# EAGLE library part NJM4580 (library PartsForEval)
オーディオ用 2 回路入りオペアンプ ●動作電源電圧 ±2~±18V ●低雑音 0.8μVrms typ. (RIAA) ●広利得帯域 15MHz typ. ●低歪率 0.0005% typ. ●スルーレート 5V/μs typ.
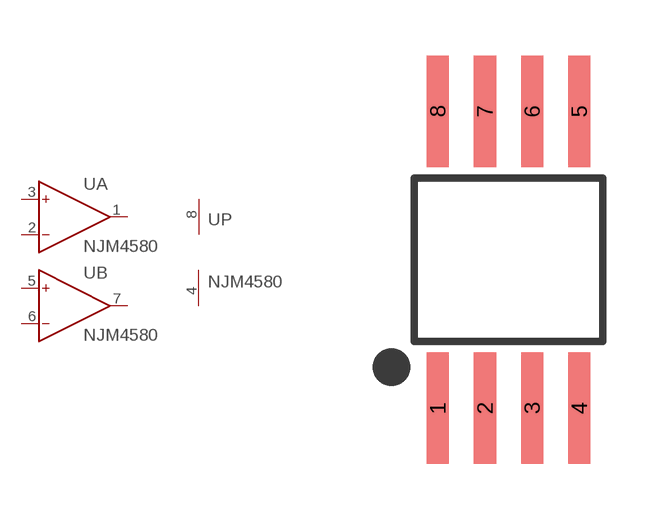
[diagram p1: symbol with the pads of DMP8; footprint DMP8]

Designator prefix U; gates A=OP B=OP P=PWR+-

## NJM4580M  [DMP8]
1  A:OUT  out
2  A:IN-  in
3  A:IN+  in
4  P:V-  pas
5  B:IN+  in
6  B:IN-  in
7  B:OUT  out
8  P:V+  pas

## Footprint DMP8 (pad centres in mm)
DMP8 パッケージ (JRC) Available for NJM4580M
smd 0.6 x 3: 1 -1.905,-4; 2 -0.635,-4; 3 0.635,-4; 4 1.905,-4; 5 1.905,4; 6 0.635,4; 7 -0.635,4; 8 -1.905,4